# Altium integrated library Tigershark 3D.IntLib: 48 symbols
Pins are listed as number, name and electrical type; pins without a type are passive.

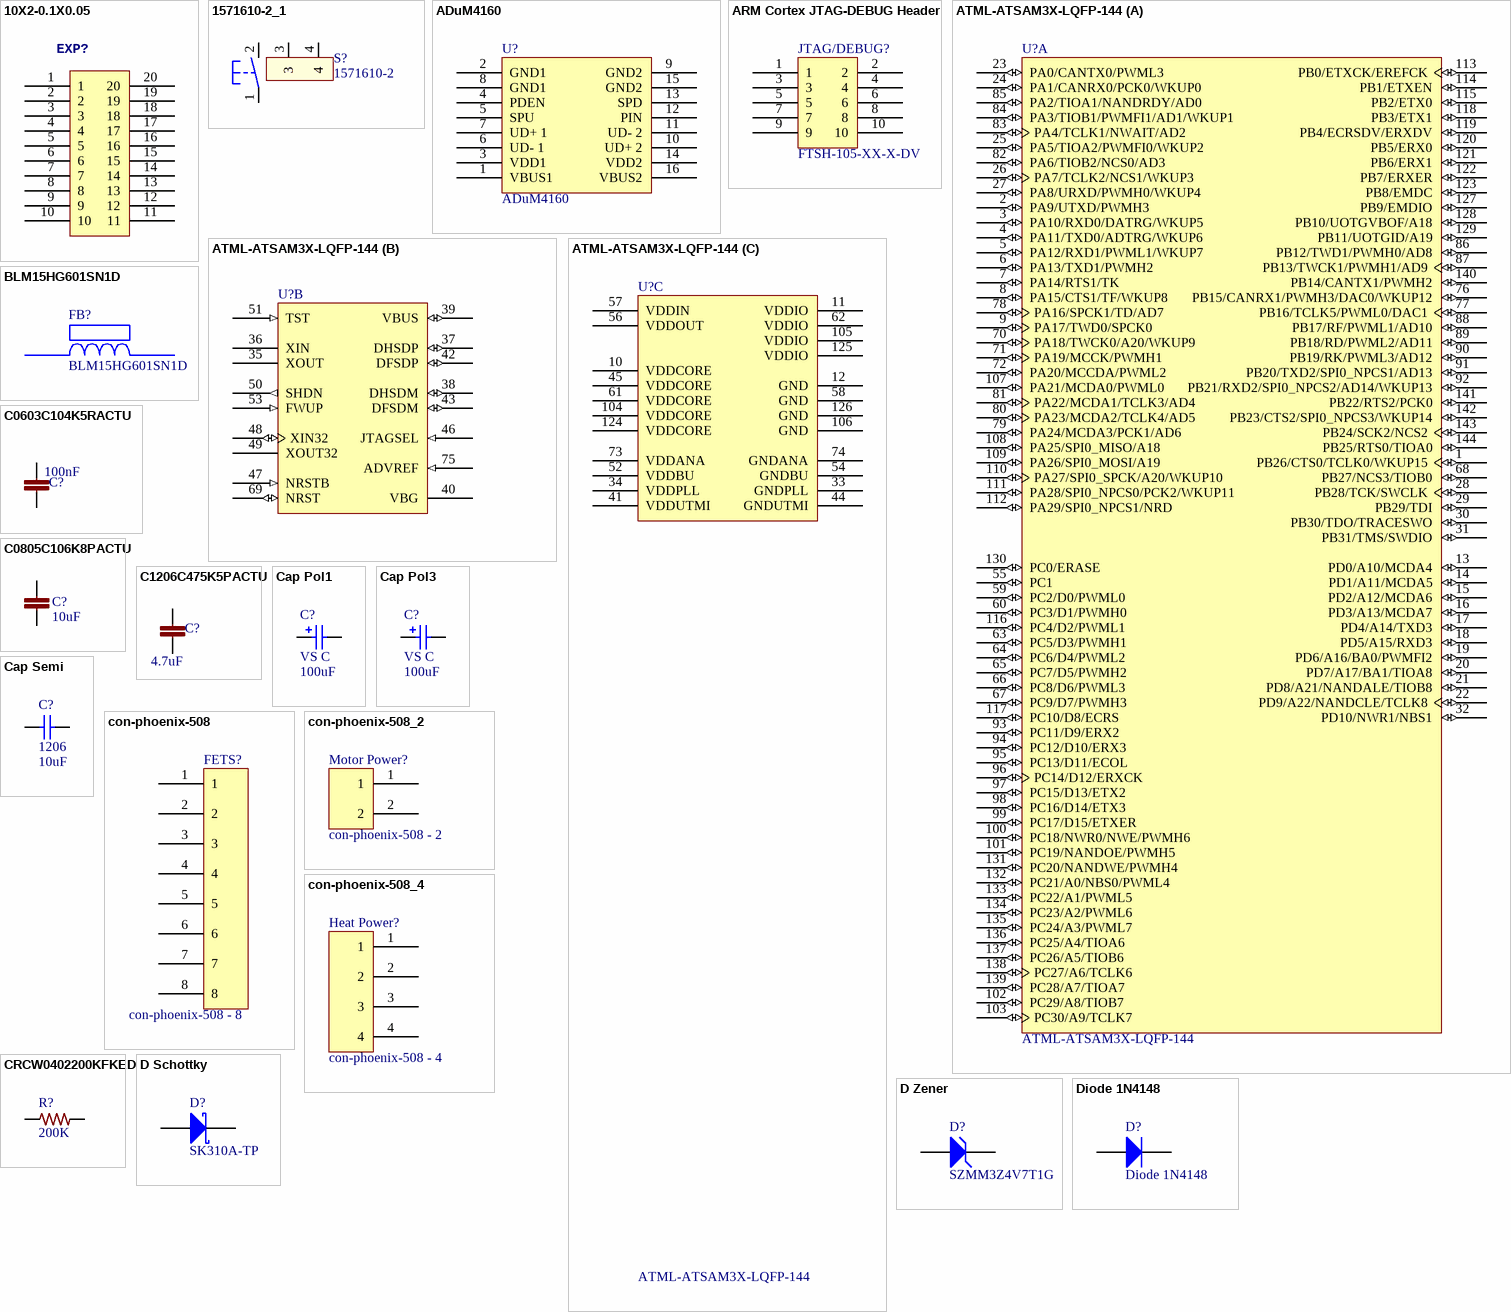
[diagram p0: symbols 10X2-0.1X0.05 to Diode 1N4148]

## 10X2-0.1X0.05
designator EXP?  (value not drawn)
LastRevisionNote: ImportComponents; Published: 23-Apr-2014; Publisher: UltiMachine; LastRevisionDate: 23-Apr-2014
footprint 10X2-0.05X0.1w
pins: 1, 2, 3, 4, 5, 6, 7, 8, 9, 10, 11, 12, 13, 14, 15, 16, 17, 18, 19, 20

## 1571610-2_1
designator S?, comment 1571610-2
SWTCH Momentary Washable; Manufacturer: Omron; Manufacturer: TE; LastRevisionNote: Import; ComponentLink1URL: http://www.te.com/commerce/DocumentDelivery/DDEController?Action=srchrtrv&DocNm=1571610&DocType=Customer+Drawing&DocLang=English; ComponentLink1Description: Datasheet for B3F-31XX; Published: 23-Apr-2014; Publisher: UltiMachine; LastRevisionDate: 23-Apr-2014; ManufacturerPartNumber: 1571610-2; Supplier 1: Mouser; Supplier Part Number 1: 506-1571610-2
footprint B3F-31XX
pins: 1 P, 2 S, 3 (power), 4 (power)

## ADuM4160
designator U?
USB Opto Isolator
footprint ADuM4160 (SOIC, 16-Leads, Body 10.30x7.50mm, Pitch 1.27mm, IPC Medium Density)
pins: 1 VBUS1, 2 GND1, 3 VDD1, 4 PDEN, 5 SPU, 6 UD- 1, 7 UD+ 1, 8 GND1, 9 GND2, 10 UD+ 2, 11 UD- 2, 12 PIN, 13 SPD, 14 VDD2, 15 GND2, 16 VBUS2

## ARM Cortex JTAG-DEBUG Header
designator JTAG/DEBUG?, comment FTSH-105-XX-X-DV
footprint FTSH-105-XX-X-DV (1.27mm pitch, 10 pin, terminal strip; vertical, SMT)
pins: 1, 2, 3, 4, 5, 6, 7, 8, 9, 10

## ATML-ATSAM3X-LQFP-144
designator U?
footprint LQFP144_N (Thin QFP, 144-Leads, Body 20x20mm, Pitch 0.5mm, IPC Medium Density)
part A pins: 1 PB26/CTS0/TCLK0/WKUP15 (io), 2 PA9/UTXD/PWMH3 (io), 3 PA10/RXD0/DATRG/WKUP5 (io), 4 PA11/TXD0/ADTRG/WKUP6 (io), 5 PA12/RXD1/PWML1/WKUP7 (io), 6 PA13/TXD1/PWMH2 (io), 7 PA14/RTS1/TK (io), 8 PA15/CTS1/TF/WKUP8 (io), 9 PA17/TWD0/SPCK0 (io), 13 PD0/A10/MCDA4 (io), 14 PD1/A11/MCDA5 (io), 15 PD2/A12/MCDA6 (io), 16 PD3/A13/MCDA7 (io), 17 PD4/A14/TXD3 (io), 18 PD5/A15/RXD3 (io), 19 PD6/A16/BA0/PWMFI2 (io), 20 PD7/A17/BA1/TIOA8 (io), 21 PD8/A21/NANDALE/TIOB8 (io), 22 PD9/A22/NANDCLE/TCLK8 (io), 23 PA0/CANTX0/PWML3 (io), 24 PA1/CANRX0/PCK0/WKUP0 (io), 25 PA5/TIOA2/PWMFI0/WKUP2 (io), 26 PA7/TCLK2/NCS1/WKUP3 (io), 27 PA8/URXD/PWMH0/WKUP4 (io), 28 PB28/TCK/SWCLK (io), 29 PB29/TDI (io), 30 PB30/TDO/TRACESWO (io), 31 PB31/TMS/SWDIO (io), 32 PD10/NWR1/NBS1 (io), 55 PC1 (io), 59 PC2/D0/PWML0 (io), 60 PC3/D1/PWMH0 (io), 63 PC5/D3/PWMH1 (io), 64 PC6/D4/PWML2 (io), 65 PC7/D5/PWMH2 (io), 66 PC8/D6/PWML3 (io), 67 PC9/D7/PWMH3 (io), 68 PB27/NCS3/TIOB0 (io), 70 PA18/TWCK0/A20/WKUP9 (io), 71 PA19/MCCK/PWMH1 (io), 72 PA20/MCCDA/PWML2 (io), 76 PB15/CANRX1/PWMH3/DAC0/WKUP12 (io), 77 PB16/TCLK5/PWML0/DAC1 (io), 78 PA16/SPCK1/TD/AD7 (io), 79 PA24/MCDA3/PCK1/AD6 (io), 80 PA23/MCDA2/TCLK4/AD5 (io), 81 PA22/MCDA1/TCLK3/AD4 (io), 82 PA6/TIOB2/NCS0/AD3 (io), 83 PA4/TCLK1/NWAIT/AD2 (io), 84 PA3/TIOB1/PWMFI1/AD1/WKUP1 (io), 85 PA2/TIOA1/NANDRDY/AD0 (io), 86 PB12/TWD1/PWMH0/AD8 (io), 87 PB13/TWCK1/PWMH1/AD9 (io), 88 PB17/RF/PWML1/AD10 (io), 89 PB18/RD/PWML2/AD11 (io), 90 PB19/RK/PWML3/AD12 (io), 91 PB20/TXD2/SPI0_NPCS1/AD13 (io), 92 PB21/RXD2/SPI0_NPCS2/AD14/WKUP13 (io), 93 PC11/D9/ERX2 (io), 94 PC12/D10/ERX3 (io), 95 PC13/D11/ECOL (io), 96 PC14/D12/ERXCK (io), 97 PC15/D13/ETX2 (io), 98 PC16/D14/ETX3 (io), 99 PC17/D15/ETXER (io), 100 PC18/NWR0/NWE/PWMH6 (io), 101 PC19/NANDOE/PWMH5 (io), 102 PC29/A8/TIOB7 (io), 103 PC30/A9/TCLK7 (io), 107 PA21/MCDA0/PWML0 (io), 108 PA25/SPI0_MISO/A18 (io), 109 PA26/SPI0_MOSI/A19 (io), 110 PA27/SPI0_SPCK/A20/WKUP10 (io), 111 PA28/SPI0_NPCS0/PCK2/WKUP11 (io), 112 PA29/SPI0_NPCS1/NRD (io), 113 PB0/ETXCK/EREFCK (io), 114 PB1/ETXEN (io), 115 PB2/ETX0 (io), 116 PC4/D2/PWML1 (io), 117 PC10/D8/ECRS (io), 118 PB3/ETX1 (io), 119 PB4/ECRSDV/ERXDV (io), 120 PB5/ERX0 (io), 121 PB6/ERX1 (io), 122 PB7/ERXER (io), 123 PB8/EMDC (io), 127 PB9/EMDIO (io), 128 PB10/UOTGVBOF/A18 (io), 129 PB11/UOTGID/A19 (io), 130 PC0/ERASE (io), 131 PC20/NANDWE/PWMH4 (io), 132 PC21/A0/NBS0/PWML4 (io), 133 PC22/A1/PWML5 (io), 134 PC23/A2/PWML6 (io), 135 PC24/A3/PWML7 (io), 136 PC25/A4/TIOA6 (io), 137 PC26/A5/TIOB6 (io), 138 PC27/A6/TCLK6 (io), 139 PC28/A7/TIOA7 (io), 140 PB14/CANTX1/PWMH2 (io), 141 PB22/RTS2/PCK0 (io), 142 PB23/CTS2/SPI0_NPCS3/WKUP14 (io), 143 PB24/SCK2/NCS2 (io), 144 PB25/RTS0/TIOA0 (io)
part B pins: 35 XOUT "Main Oscillator Output", 36 XIN "Main Oscillator Input", 37 DHSDP (io) "USB High Speed Data +", 38 DHSDM (io) "USB High Speed Data -", 39 VBUS (io) "USB Bus Power Measurement Mini Host/Device", 40 VBG "Bias Voltage Reference", 42 DFSDP (io) "USB Full Speed Data +", 43 DFSDM (io) "USB Full Speed Data -", 46 JTAGSEL (in) "JTAG Selection", 47 NRSTB (in) "Asynchronous Microcontroller Reset", 48 XIN32 (io) "Slow Clock Oscillator Input", 49 XOUT32 "Slow Clock Oscillator Output", 50 SHDN (out) "Shut-Down Control", 51 TST (in) "Test Mode Select", 53 FWUP (in) "Force Wake-up Input", 69 NRST (io) "Microcontroller Reset", 75 ADVREF (in) "ADC and DAC Reference"
part C pins: 10 VDDCORE (power) "Core Chip Power Supply", 11 VDDIO (power) "Peripherals I/O Lines Power Supply", 12 GND (power) "Ground", 33 GNDPLL (power) "PLL A, UPLL and Oscillator Ground", 34 VDDPLL (power) "PLL A, UPLL and Oscillator Power Supply", 41 VDDUTMI (power) "USB UTMI+ Interface Power Supply", 44 GNDUTMI (power) "USB UTMI+ Interface Ground", 45 VDDCORE (power) "Core Chip Power Supply", 52 VDDBU (power) "Backup I/O Lines Power Supply", 54 GNDBU (power) "Backup Ground", 56 VDDOUT (power) "Voltage Regulator Output", 57 VDDIN (power) "Voltage Regulator, ADC and DAC Power", 58 GND (power) "Ground", 61 VDDCORE (power) "Core Chip Power Supply", 62 VDDIO (power) "Peripherals I/O Lines Power Supply", 73 VDDANA (power) "ADC and DAC Analog Power Supply", 74 GNDANA (power) "ADC and DAC Analog Ground", 104 VDDCORE (power) "Core Chip Power Supply", 105 VDDIO (power) "Peripherals I/O Lines Power Supply", 106 GND (power) "Ground", 124 VDDCORE (power) "Core Chip Power Supply", 125 VDDIO (power) "Peripherals I/O Lines Power Supply", 126 GND (power) "Ground"

## BLM15HG601SN1D
designator FB?
footprint BLM18PG121SN1D (Chip Inductor, 2-Leads, Body 1.0x0.5mm, IPC Medium Density)
pins: 1, 2

## C0603C104K5RACTU
designator C?, comment 100nF
CAP CER 0603 100nF 50V 10% X7R; ManufacturerPartNumber: C0603C104K5RACTU; LastRevisionNote: ImportComponents; Published: 23-Apr-2014; Publisher: UltiMachine; LastRevisionDate: 23-Apr-2014; VALUE: 100nF
footprint C0603
signal-integrity model Model Name (Model Description)
simulation model Model Name (Model Description)
pins: 1, 2

## C0805C106K8PACTU
designator C?, comment 10uF
CAP CER 0805 10uF 10V 10% X5R; ManufacturerPartNumber: C0805C106K8PACTU; LastRevisionNote: ImportComponents; Published: 23-Apr-2014; Publisher: UltiMachine; LastRevisionDate: 23-Apr-2014; VALUE: 10uF
footprint C0805
signal-integrity model Model Name (Model Description)
simulation model Model Name (Model Description)
pins: 1, 2

## C1206C475K5PACTU
designator C?, comment 4.7uF
CAP CER 1206 4.7uF 50V 10% X5R; ManufacturerPartNumber: C1206C475K5PACTU; LastRevisionNote: ImportComponents; Published: 23-Apr-2014; Publisher: UltiMachine; LastRevisionDate: 23-Apr-2014; VALUE: 4.7uF
signal-integrity model Model Name (Model Description)
simulation model Model Name (Model Description)
footprint C1206
pins: 1, 2

## Cap Pol1
designator C?, comment VS C  value 100uF
Polarized Capacitor (Radial); Published: 8-Jun-2000; LatestRevisionDate: 17-Jul-2002; LatestRevisionNote: Re-released for DXP Platform.; PackageReference: RB7.6-15; Publisher: Altium Limited; PackageDescription: Polarized Capacitor (Radial); 2 Leads
footprint RB7.6-15 (Polarized Capacitor (Radial); 2 Leads)
simulation model CAP (Capacitor)
signal-integrity model Cap Pol
footprint Panasonic VS C
footprint Panasonic VS B
pins: 1, 2
1 alternate drawing of the same symbol

## Cap Pol3
designator C?, comment VS C  value 100uF
Polarized Capacitor (Surface Mount); Published: 8-Jun-2000; LatestRevisionDate: 29-May-2009; LatestRevisionNote: IPC-7351 Footprint Added.; PackageReference: C0805; Publisher: Altium Limited; PackageDescription: Chip Capacitor
footprint C0805 (Chip Capacitor, Body 2.0x1.3mm, IPC High Density)
footprint 1812 (Chip Capacitor, Body 4.5x3.2mm, IPC High Density)
footprint 1825 (Chip Capacitor, Body 4.5x6.4mm, IPC High Density)
footprint C2225 (Chip Capacitor, Body 5.7x6.4mm, IPC High Density)
footprint 2220 (Chip Capacitor, Body 5.7x5.0mm, IPC High Density)
simulation model CAP (Capacitor)
signal-integrity model Cap Pol
footprint Panasonic VS C
footprint Panasonic VS D
pins: 1, 2
1 alternate drawing of the same symbol

## Cap Semi
designator C?, comment 1206  value 10uF
Capacitor (Semiconductor SIM Model); Published: 8-Jun-2000; LatestRevisionDate: 29-May-2009; LatestRevisionNote: IPC-7351 Footprint Added.; PackageReference: C1206; Publisher: Altium Limited; PackageDescription: Chip Capacitor
footprint C1206 (Chip Capacitor, Body 3.2x1.6mm, IPC High Density)
footprint 0402 (Chip Capacitor, Body 1.0x0.5mm, IPC High Density)
footprint C2512 (Chip Capacitor, Body 2.54x1.27mm, IPC High Density)
footprint 1608[0603] (Chip Capacitor, Body 1.6x0.8mm, IPC High Density)
footprint C1210 (Chip Capacitor, Body 3.2x2.5mm, IPC High Density)
simulation model CAP (Semiconductor Capacitor)
signal-integrity model Cap Semi
pins: 1, 2

## con-phoenix-508
designator FETS?, comment con-phoenix-508 - 8
footprint con-phoenix-508 - 8 (con-phoenix-508)
footprint MSTBV4
pins: 1, 2, 3, 4, 5, 6, 7, 8

## con-phoenix-508_2
designator Motor Power?, comment con-phoenix-508 - 2
footprint MSTBV4
footprint MSTBV2 - duplicate
pins: 1, 2

## con-phoenix-508_4
designator Heat Power?, comment con-phoenix-508 - 4
footprint MSTBV4
pins: 1, 2, 3, 4

## CRCW0402200KFKED
designator R?, comment 200K
RES 0402 22r 63mW 1%; ManufacturerPartNumber: CRCW0402200KFKED; LastRevisionNote: ImportComponents; Published: 23-Apr-2014; Publisher: UltiMachine; LastRevisionDate: 23-Apr-2014; VALUE: 200K
footprint R0402
signal-integrity model Model Name (Model Description)
simulation model Model Name (Model Description)
pins: 1, 2

## D Schottky
designator D?, comment SK310A-TP
Schottky Diode; Published: 8-Jun-2000; LatestRevisionDate: 17-Jul-2002; LatestRevisionNote: Re-released for DXP Platform.; PackageReference: SMB; Publisher: Altium Limited; PackageDescription: DO-214-AA/SMB; 2 C-Bend Leads; Body 5.3 x 3.6 mm, inc. leads (LxW); Code_JEDEC: DO-214-AA
footprint SMB (DO-214-AA/SMB; 2 C-Bend Leads; Body 5.3 x 3.6 mm, inc. leads (LxW))
simulation model SKYDIODE (Diode)
signal-integrity model D Schottky
footprint SK310A-TP (Schottky Diode 0.85 V-Drop 100A)
pins: 1 A, 2 K

## D Zener
designator D?, comment SZMM3Z4V7T1G
Zener Diode; Published: 8-Jun-2000; LatestRevisionDate: 17-Jul-2002; LatestRevisionNote: Re-released for DXP Platform.; PackageReference: DIODE-0.7; Publisher: Altium Limited; PackageDescription: Diode, Thru-Hole; 2 Leads; 0.7 in Pin Spacing
simulation model ZENER (Diode)
signal-integrity model D Zener
footprint SZMM3Z4V7T1G (Molded Diode, 2-Leads, Body 1.70x1.25mm, IPC Medium Density)
pins: 1 A, 2 K

## Diode 1N4148
designator D?
High Conductance Fast Diode; Published: 8-Jun-2000; LatestRevisionDate: 17-Jul-2002; LatestRevisionNote: Re-released for DXP Platform.; DatasheetVersion: 1997; PackageReference: DO-35; Publisher: Altium Limited; PackageDescription: Diode, Axial; Body 3.8 x 1.9 mm (LxDia. max), Lead Dia. 0.53 mm (max); Code_JEDEC: DO-204-AH; ComponentLink1Description: Manufacturer Link; ComponentLink1URL: http://www.fairchildsemi.com/; ComponentLink2Description: Datasheet; ComponentLink2URL: http://www.fairchildsemi.com/ds/1N%2F1N4148.pdf
simulation model 1N4148 (DIODE)
signal-integrity model 1N4148
footprint 1N4148WT (Molded Diode, 2-Leads, Body 1.20x0.80mm, IPC Medium Density)
pins: 1 A, 2 K

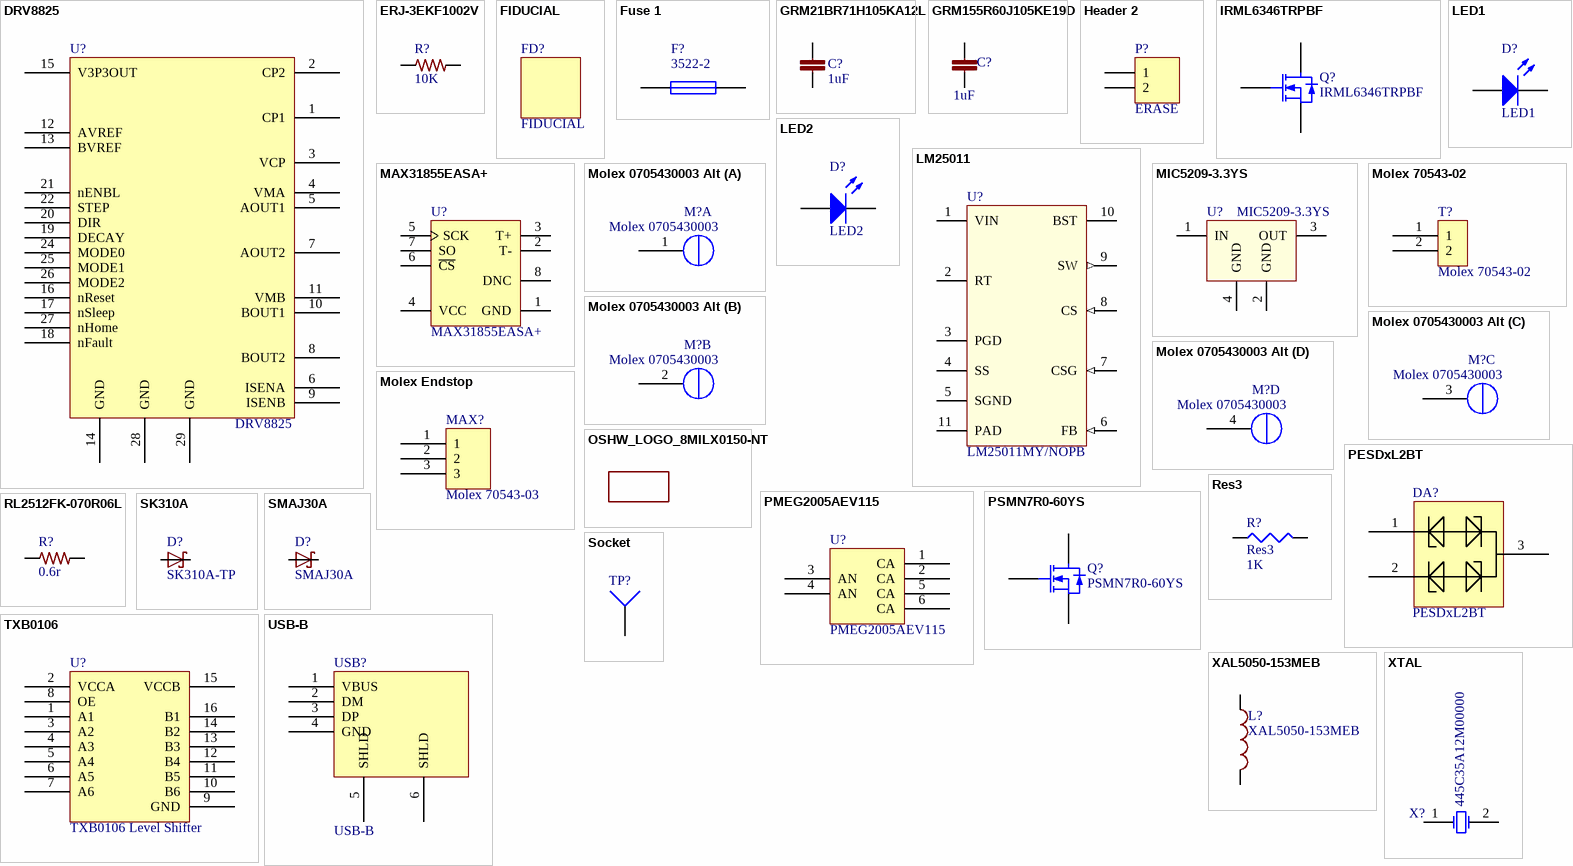
[diagram p1: symbols DRV8825 to XTAL]

## DRV8825
designator U?
DRV8825 Ti Stepper Driver
footprint DRV8825 (TSOP, 28-Leads, Body 9.70x4.40mm, Pitch 0.65mm, Thermal Pad 5.22.2x3.10.2mm, IPC Medium Density)
pins: 1 CP1, 2 CP2, 3 VCP, 4 VMA, 5 AOUT1, 6 ISENA, 7 AOUT2, 8 BOUT2, 9 ISENB, 10 BOUT1, 11 VMB, 12 AVREF, 13 BVREF, 14 GND, 15 V3P3OUT, 16 nReset, 17 nSleep, 18 nFault, 19 DECAY, 20 DIR, 21 nENBL, 22 STEP, 23 NC hidden, 24 MODE0, 25 MODE1, 26 MODE2, 27 nHome, 28 GND, 29 GND

## ERJ-3EKF1002V
designator R?, comment 10K
RES 0603 10K 100mW 1%; ManufacturerPartNumber: ERJ-3EKF1002V; LastRevisionNote: ImportComponents; Published: 23-Apr-2014; Publisher: UltiMachine; LastRevisionDate: 23-Apr-2014; VALUE: 10K
footprint R0603
signal-integrity model Model Name (Model Description)
simulation model Model Name (Model Description)
pins: 1, 2

## FIDUCIAL
designator FD?
footprint FIDUCIAL-1X2

## Fuse 1
designator F?, comment 3522-2
Fuse; Published: 8-Jun-2000; LatestRevisionDate: 17-Jul-2002; LatestRevisionNote: Re-released for DXP Platform.; PackageReference: PIN-W2/E2.8; Publisher: Altium Limited; PackageDescription: Thru-Hole; 2 Leads
simulation model FUSE (Spice Subcircuit)
footprint 3522-2 - WAVE SOLDER (3522-2)
pins: 1, 2

## GRM21BR71H105KA12L
designator C?, comment 1uF
CAP CER 0805 1uF 50V 10% X7R; ManufacturerPartNumber: GRM21BR71H105KA12L; LastRevisionNote: ImportComponents; Published: 23-Apr-2014; Publisher: UltiMachine; LastRevisionDate: 23-Apr-2014; VALUE: 1uF
footprint C0805
signal-integrity model Model Name (Model Description)
simulation model Model Name (Model Description)
pins: 1, 2

## GRM155R60J105KE19D
designator C?, comment 1uF
CAP CER 0402 1uF 6.3V 10% X5R; ManufacturerPartNumber: GRM155R60J105KE19D; LastRevisionNote: ImportComponents; Published: 23-Apr-2014; Publisher: UltiMachine; LastRevisionDate: 23-Apr-2014; VALUE: 1uF
footprint C0402
signal-integrity model Model Name (Model Description)
simulation model Model Name (Model Description)
pins: 1, 2

## Header 2
designator P?, comment ERASE
Header, 2-Pin; LatestRevisionDate: 17-Jul-2002; LatestRevisionNote: Re-released for DXP Platform.; Publisher: Altium Limited
footprint HDR1X2 (Connector; Header; 2 Position)
signal-integrity model Connector
pins: 1, 2

## IRML6346TRPBF
designator Q?
N-Channel MOSFET; Published: 8-Jun-2000; LatestRevisionDate: 17-Jul-2002; LatestRevisionNote: Re-released for DXP Platform.; PackageVersion: 1995/1996; PackageReference: E3; Publisher: Altium Limited; PackageDescription: TO, Flat Index; 3 In-Line, Axial Leads; Body Dia. 4.6mm; Lead Dia. 0.5 mm (max)
simulation model NMOS (MOSFET-N)
footprint IRLML6346 (SOT23, 3-Leads, Body 2.92x2.37mm, Pitch 0.95mm, IPC Medium Density)
pins: 1 G, 2 S, 3 D

## LED1
designator D?
Typical RED GaAs LED; Published: 8-Jun-2000; LatestRevisionDate: 08-Jul-2005; LatestRevisionNote: Mech Layer 1 removed.; PackageReference: LED-1; Publisher: Altium Limited; PackageDescription: LED; 2 Leads
footprint SM 0805 polarized
pins: 1 A, 2 K

## LED2
designator D?
Typical RED, GREEN, YELLOW, AMBER GaAs LED; Published: 8-Jun-2000; LatestRevisionDate: 17-Jul-2002; LatestRevisionNote: Re-released for DXP Platform.; PackageVersion: Feb-2002; PackageReference: 3.2X1.6X1.1; Publisher: Altium Limited; PackageDescription: SM LED; 2 Flat Leads
simulation model LED2 (Diode)
footprint SM 0805 polarized
pins: 1 A, 2 K

## LM25011
designator U?, comment LM25011MY/NOPB
REG BUCK; Value: LM25011MY/NOPB
footprint VSSOP10 (TSSOP, 10-Leads, Body 3.15x3.00mm, Pitch 0.50mm, Thermal Pad 2.05.2x1.50.2mm, IPC High Density)
pins: 1 VIN (power), 2 RT (power), 3 PGD (power), 4 SS (power), 5 SGND (power), 6 FB (in), 7 CSG (in), 8 CS (in), 9 SW (out), 10 BST (power), 11 PAD (power)

## MAX31855EASA+
designator U?
Cold Junction Compensated Thermocouple to Digital Converter, 14 Bits Temperature Resolution, -40 to 125 degC, 8-Pin SOIC (S8+4), Pb-Free; Functions: Thermocouple-to-Digital Converter; Interface: SPI; Parasite Pwr.: No; DatasheetVersion: Rev. 2; PackageVersion: Rev. D, 10/2012; PackageReference: S8+4; PackageDescription: 8-Pin Small-Outline IC, Narrow, Body 3.9 x 4.9 mm, Pitch 1.27 mm; Supplier 1: Digi-Key; Supplier Part Number 1: MAX31855EASA+-ND; Supplier 2: Mouser; Supplier Part Number 2: 700-MAX31855EASA+; Generic Part Number: MAX31855; Mounting Technology: Surface Mount; Code_JEDEC: MS-012; PartNumber: MAX31855EASA+; ComponentLink1Description: Manufacturer URL; ComponentLink1URL: http://www.maximintegrated.com/; ComponentLink2Description: Datasheet; ComponentLink2URL: http://datasheets.maximintegrated.com/en/ds/MAX31855.pdf; ComponentLink3Description: Package Specification; ComponentLink3URL: http://pdfserv.maximintegrated.com/package_dwgs/21-0041.PDF
footprint MAXM-S8+4_N (SOIC, 8-Leads, Body 4.9x3.9mm, Pitch 1.27mm, IPC Medium Density)
footprint MAXM-S8+4_L (SOIC, 8-Leads, Body 4.9x3.9mm, Pitch 1.27mm, IPC High Density)
footprint MAXM-S8+4_M (SOIC, 8-Leads, Body 4.9x3.9mm, Pitch 1.27mm, IPC Low Density)
footprint Model Name (Footprint not found)
footprint MAXM-S8+4_N (SOIC, 8-Leads, Body 4.9x3.9mm, Pitch 1.27mm, IPC Medium Density)
pins: 1 GND "Ground", 2 T- "Thermocouple Input. See Table 1. Do not connect to GND.", 3 T+ "Thermocouple Input. See Table 1.", 4 VCC (power) "Power-Supply Voltage", 5 SCK "Serial-Clock Input", 6 ~{CS} "Active-Low Chip Select. Set C\S\ low to enable the serial interface.", 7 SO "Serial-Data Output", 8 DNC "Do Not Connect"

## MIC5209-3.3YS
designator U?
footprint SOT230P700X190-4N (SOT223, 4-Leads, Body 6.50x7.00mm (avg), Pitch 2.30mm, IPC Medium Density)
pins: 1 IN (power), 2 GND (power), 3 OUT (power), 4 GND (power)

## Molex 70543-02
designator T?
footprint Molex 70543-02
footprint 70543-02
pins: 1, 2

## Molex 0705430003 Alt
designator M?, comment Molex 0705430003
Molex 4 Pin Clip Connector
footprint Molex 0705430003 (4 pin connector)
footprint 4POL254
footprint 4POL254 - 026604040
part A pins: 1 OUT2B
part B pins: 2 OUT2A
part C pins: 3 OUT1A
part D pins: 4 OUT1B

## Molex Endstop
designator MAX?, comment Molex 70543-03
footprint MOLEX Endstop
footprint 70543-03
pins: 1, 2, 3

## OSHW_LOGO_8MILX0150-NT
designator LOGO?  (value not drawn)
LastRevisionNote: ImportComponents; Published: 23-Apr-2014; Publisher: UltiMachine; LastRevisionDate: 23-Apr-2014
footprint OSHW_8X150_NOTEXT

## PESDxL2BT
designator DA?
PESDxL2BT TVS Diode Array 2x
footprint SOT95P230X110-3N (SOT23, 3-Leads, Body 2.90x2.30mm, Pitch 0.95mm, IPC Medium Density)
pins: 1, 2, 3

## PMEG2005AEV115
designator U?
footprint PMEG2005AEV115 (SOT23, 6-Leads, Body 1.7x1.7mm (max), Pitch 0.50mm, IPC Medium Density)
pins: 1 CA, 2 CA, 3 AN, 4 AN, 5 CA, 6 CA

## PSMN7R0-60YS
designator Q?
N-Channel MOSFET; Published: 8-Jun-2000; LatestRevisionDate: 17-Jul-2002; LatestRevisionNote: Re-released for DXP Platform.; PackageVersion: 1995/1996; PackageReference: E3; Publisher: Altium Limited; PackageDescription: TO, Flat Index; 3 In-Line, Axial Leads; Body Dia. 4.6mm; Lead Dia. 0.5 mm (max)
simulation model NMOS (MOSFET-N)
footprint PSMN7R0-60YS (TO, 5-Pads, Body 5.15x5.86mm (max), IPC Medium Density)
pins: 1 S hidden to GND, 2 S hidden to GND, 3 S, 4 G, 5 D

## Res3
designator R?  value 1K
Resistor; Published: 8-Jun-2000; LatestRevisionDate: 29-May-2009; LatestRevisionNote: IPC-7351 Footprint Added.; PackageReference: J1-0603; Publisher: Altium Limited; PackageDescription: Chip Resistor
footprint J1-0603 (Chip Resistor, Body 1.6x0.8mm, IPC High Density)
footprint 14-1210 (Chip Resistor, Body 3.2x2.5mm, IPC High Density)
footprint 12Z-2010 (Chip Resistor, Body 5.0x2.5mm, IPC High Density)
footprint RESC6332 (Chip Resistor, Body 6.3x3.2mm, IPC High Density)
simulation model RESISTOR (Resistor)
signal-integrity model Res
footprint SM 0805 - gap trimmed
pins: 1, 2

## RL2512FK-070R06L
designator R?, comment 0.6r
RES 0.06 OHM 1W 1% 2512 SMD; ManufacturerPartNumber: RL2512FK-070R06L; LastRevisionNote: ImportComponents; Published: 23-Apr-2014; Publisher: UltiMachine; LastRevisionDate: 23-Apr-2014; VALUE: 0.6r
signal-integrity model Model Name (Model Description)
simulation model Model Name (Model Description)
footprint 2512R-0.55 (2512 Resistor 6.35mm x 3.2mm x 0.55mm)
pins: 1, 2

## SK310A
designator D?, comment SK310A-TP
DIODE Schottky 3A SMA; ManufacturerPartNumber: SK310A; LastRevisionNote: ImportComponents; LastRevisionDate: 23-Apr-2014; Published: 23-Apr-2014; Publisher: UltiMachine
footprint SMA-SM
pins: A, C

## SMAJ30A
designator D?
DIODE TVS 30V SMA; LastRevisionNote: ImportComponents; Published: 23-Apr-2014; Publisher: UltiMachine; LastRevisionDate: 23-Apr-2014; ManufacturerPartNumber: SMAJ30A
footprint SMA-SM
pins: A, C

## Socket
designator TP?, comment TP4  (value not drawn)
Socket; LatestRevisionDate: 17-Jul-2002; LatestRevisionNote: Re-released for DXP Platform.; Publisher: Altium Limited
signal-integrity model Connector
footprint TP-2
pins: 1

## TXB0106
designator U?, comment TXB0106 Level Shifter
TXB0106 - Bidriectional Opendrain/pushpull level shift
footprint TSOP65P640X120-16N (TSOP, 16-Leads, Body 5.00x4.40mm, Pitch 0.65mm, IPC Medium Density)
pins: 1 A1, 2 VCCA, 3 A2, 4 A3, 5 A4, 6 A5, 7 A6, 8 OE, 9 GND, 10 B6, 11 B5, 12 B4, 13 B3, 14 B2, 15 VCCB, 16 B1

## USB-B
designator USB?
footprint PN61729
pins: 1 VBUS, 2 DM, 3 DP, 4 GND, 5 SHLD, 6 SHLD

## XAL5050-153MEB
designator L?
IND 15uH 3.9A 20%; LastRevisionNote: ImportComponents; Published: 23-Apr-2014; Publisher: UltiMachine; LastRevisionDate: 23-Apr-2014; ManufacturerPartNumber: XAL5050-153MEB; Value: XAL5050-153MEB
footprint XAL50xx-153 (Precision Wire Wound Inductor, 2-Leads, Body 5.28x5.48mm, IPC High Density)
pins: 1, 2

## XTAL
designator X?, comment 445C35A12M00000
Crystal Oscillator; Published: 8-Jun-2000; LatestRevisionDate: 17-Jul-2002; LatestRevisionNote: Re-released for DXP Platform.; PackageReference: R38; Publisher: Altium Limited; PackageDescription: Crystal, Thru-Hole; 2 Leads; Body 3.1 x 8.2 mm (Dia.xH)
footprint R38 (Crystal, Thru-Hole; 2 Leads; Body 3.1 x 8.2 mm (Dia.xH))
simulation model XTAL (Spice Subcircuit)
footprint 445C35A12M00000 (Crystal Oscillator)
pins: 1 OSC1, 2 OSC2